# Altium footprint library LCD_MOD-SPE-NHD_0216XZ.PcbLib: 1 footprints
Each footprint in its own frame and in the unit in brackets; x right, y up, seen from the top. Pads: shape width x height; smd on the part's side, far side on the other; paste and mask are expansions set on the pad; w line width, h text height; cw(c..) or ccw(c..) is an arc to the next point about the centre after c.
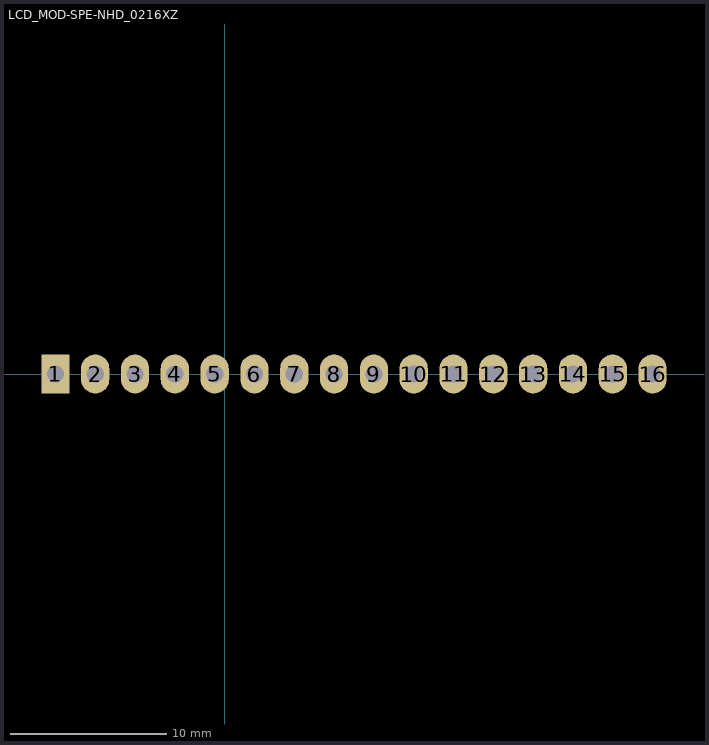
[diagram p0: the footprint, top view; thin cyan lines are the x and y axes]

## LCD_MOD-SPE-NHD_0216XZ [mm] "16P TH header, 2.54mm pitch"
pads (16):
  rect 1.8x2.5 hole 1.1: 1(-10.795,0)
  oval 1.8x2.5 hole 1.1: 2(-8.255,0) 3(-5.715,0) 4(-3.175,0) 5(-0.635,0) 6(1.905,0) 7(4.445,0) 8(6.985,0) 9(9.525,0) 10(12.065,0) 11(14.605,0) 12(17.145,0) 13(19.685,0) 14(22.225,0) 15(24.765,0) 16(27.305,0)
3D body: height 13.83, standoff 1.33, extent -18.313,-33.993 61.687,2.007